# EAGLE library part INA317 (library INA317)
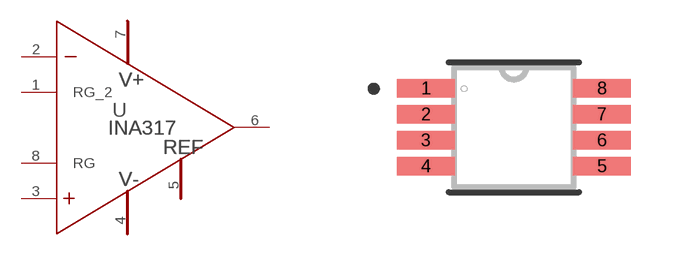
[diagram p0: symbol with the pads of DGK0008A_N; footprint DGK0008A_N]

Designator prefix -

## INA317  [DGK0008A_N]
1  RG_2  pas
2  IN-  in
3  IN+  in
4  V-  pwr
5  REF  in
6  OUT  out
7  V+  pwr
8  RG  pas

## Footprint DGK0008A_N (pad centres in mm)
smd 1.448 x 0.457: 1 -2.2,0.975; 2 -2.2,0.325; 3 -2.2,-0.325; 4 -2.2,-0.975; 5 2.2,-0.975; 6 2.2,-0.325; 7 2.2,0.325; 8 2.2,0.975